# EAGLE library part FLYBACK (library ELL-i-Transformers)
Flyback SMPS transformer These types of transformers are often used in flyback and forward SMPS converters. The primary-side auxillary winding typically used to generate a 7-12 V auxillary voltage, which is used to generate the operating voltage (VCC) for the SMPS controller chip. The packages includes the ones used at various ELL-i boards.
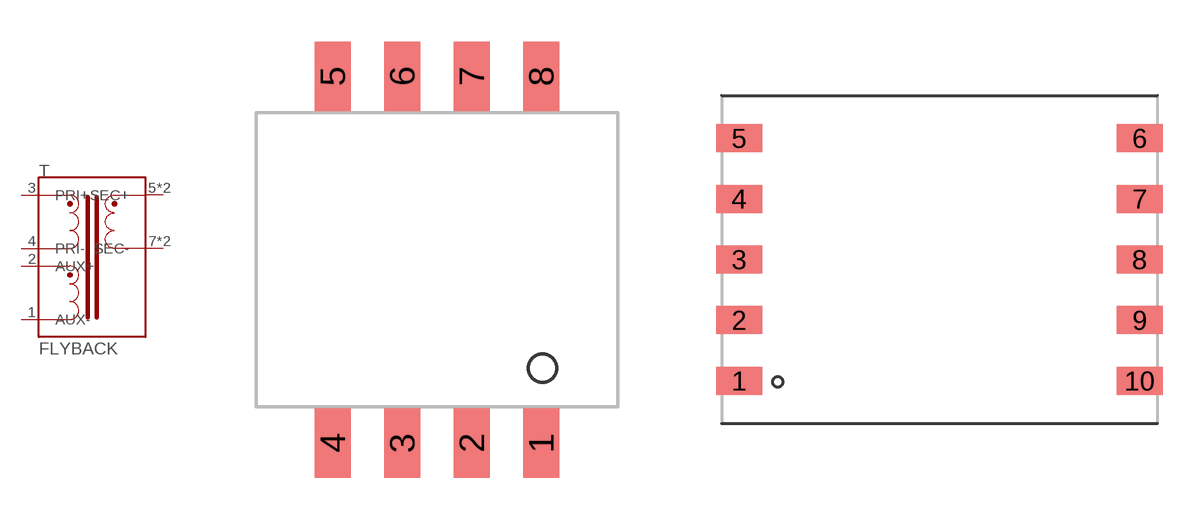
[diagram p0: symbol with the pads of PULSE-EP10; footprints PULSE-EP10, WE_EP13_SMD_10PIN]

Designator prefix T

## FLYBACKPA1134NL  [PULSE-EP10]
1  AUX-
2  AUX+
3  PRI+
4  PRI-
5  SEC+
6  SEC+
7  SEC-
8  SEC-

## FLYBACK750311689  [WE_EP13_SMD_10PIN]
1  AUX-
2  AUX+
3  PRI-
5  PRI+
6  SEC+
7  SEC+
9  SEC-
10  SEC-

## FLYBACKEMBEDDED  [WE_EP13_SMD_10PIN_EMBEDDED]
Pads as for WE_EP13_SMD_10PIN

## Footprint PULSE-EP10 (pad centres in mm)
Pulse Electronics transformer in EP10 package At ELL-i we used PA1134NL, but there are other transformers in the same package. PA1134NL product webpage <http://productfinder.pulseeng.com/product/PA1134NL> Pulse PoE Power transformers datasheet <http://productfinder.pulseeng.com/products/datasheets/SPM2007_55.pdf>
smd 1.3 x 2.5: 1 3.75,-6.6; 2 1.25,-6.6; 3 -1.25,-6.6; 4 -3.75,-6.6; 5 -3.75,6.6; 6 -1.25,6.6; 7 1.25,6.6; 8 3.75,6.6

## Footprint WE_EP13_SMD_10PIN (pad centres in mm)
Transformer, EP13 SMD 10 Pin Generic footprint for Würth Electronics EP13 SMD transformer packages; 10 pin variant. Provided by Würth.
smd 1.88 x 1.143: 1 -8.18,-4.96; 2 -8.18,-2.48; 3 -8.18,0; 4 -8.18,2.48; 5 -8.18,4.96; 6 8.18,4.96; 7 8.18,2.48; 8 8.18,0; 9 8.18,-2.48; 10 8.18,-4.96

## Footprint WE_EP13_SMD_10PIN_EMBEDDED (pad centres in mm)
smd 1.88 x 1.143: 1 -8.18,-4.96; 2 -8.18,-2.48; 3 -8.18,0; 4 -8.18,2.48; 5 -8.18,4.96; 6 8.18,4.96; 7 8.18,2.48; 8 8.18,0; 9 8.18,-2.48; 10 8.18,-4.96